# Altium footprint library 各类插件.PcbLib: 43 footprints (part 3 of 3)
Each footprint in its own frame and in the unit in brackets; x right, y up, seen from the top. Pads: shape width x height; smd on the part's side, far side on the other; paste and mask are expansions set on the pad; w line width, h text height; cw(c..) or ccw(c..) is an arc to the next point about the centre after c.
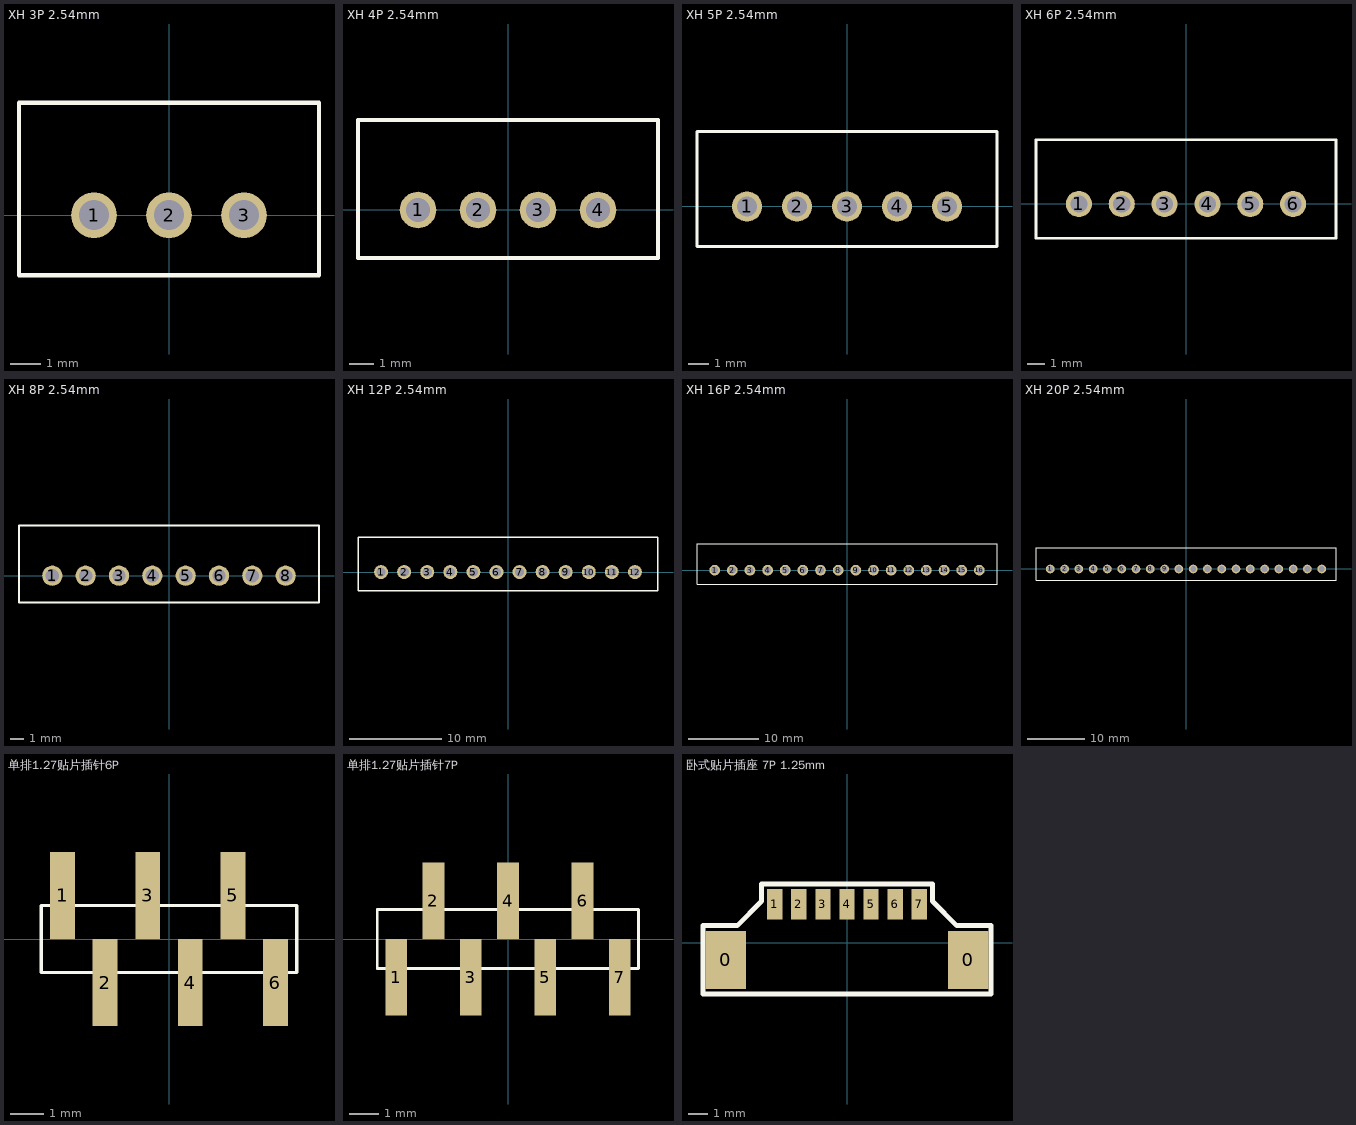
[diagram p2: the footprints below, top view; thin cyan lines are the x and y axes]

## XH 3P 2.54mm [mil]
pads (3):
  round 60 hole 39.37: 1(-98.43,0)
  round 60 hole 39.37 paste+0: 2(0,0) 3(98.43,0)
Top Overlay:
  lines w5.91: -196.85,-78.74 196.85,-78.74 ; -196.85,-76.77 -196.85,147.64 196.85,147.64 196.85,-76.77

## XH 4P 2.54mm [mm]
pads (4):
  round 1.524 hole 1: 1(-3.75,0) 2(-1.25,0)
  round 1.524 hole 1 paste+0: 3(1.25,0) 4(3.75,0)
Top Overlay:
  lines w0.15: -6.25,-2 6.25,-2 ; -6.25,-1.95 -6.25,3.75 6.25,3.75 6.25,-1.95

## XH 5P 2.54mm [mil]
pads (5):
  round 60 hole 39.37: 1(-196.85,0)
  round 60 hole 39.37 paste+0: 2(-98.43,0) 3(0,0) 4(98.43,0) 5(196.85,0)
Top Overlay:
  lines w5.91: -295.28,-78.74 -295.28,147.64 295.28,147.64 295.28,-78.74 -295.28,-78.74

## XH 6P 2.54mm [mm]
pads (6):
  round 1.524 hole 1: 1(-6.25,0) 4(1.25,0) 5(3.75,0)
  round 1.524 hole 1 paste+0: 2(-3.75,0) 3(-1.25,0) 6(6.25,0)
Top Overlay:
  lines w0.15: -8.75,-2 -8.75,3.75 8.75,3.75 8.75,-2 -8.75,-2

## XH 8P 2.54mm [mm]
pads (8):
  round 1.524 hole 1: 1(-8.75,0) 2(-6.25,0) 5(1.25,0) 6(3.75,0)
  round 1.524 hole 1 paste+0: 3(-3.75,0) 4(-1.25,0) 7(6.25,0) 8(8.75,0)
Top Overlay:
  lines w0.15: -11.25,-2 -11.25,3.75 11.25,3.75 11.25,-2 -11.25,-2

## XH 12P 2.54mm [mm]
pads (12):
  round 1.524 hole 1: 1(-13.75,0) 2(-11.25,0) 5(-3.75,0) 6(-1.25,0) 9(6.25,0) 10(8.75,0)
  round 1.524 hole 1 paste+0: 3(-8.75,0) 4(-6.25,0) 7(1.25,0) 8(3.75,0) 11(11.25,0) 12(13.75,0)
Top Overlay:
  lines w0.15: -16.25,-2 -16.25,3.75 16.25,3.75 16.25,-2 -16.25,-2

## XH 16P 2.54mm [mm]
pads (16):
  round 1.524 hole 1: 1(-18.75,0) 2(-16.25,0) 5(-8.75,0) 6(-6.25,0) 11(6.25,0) 12(8.75,0) 15(16.25,0) 16(18.75,0)
  round 1.524 hole 1 paste+0: 3(-13.75,0) 4(-11.25,0) 7(-3.75,0) 8(-1.25,0) 9(1.25,0) 10(3.75,0) 13(11.25,0) 14(13.75,0)
Top Overlay:
  lines w0.15: -21.25,-2 21.25,-2 21.25,3.75 -21.25,3.75 -21.25,-2

## XH 20P 2.54mm [mm]
pads (20):
  round 1.524 hole 1: 1(-23.75,0) 2(-21.25,0) 3(-18.75,0) 4(-16.25,0) 7(-8.75,0) 8(-6.25,0) 11(1.25,0) 12(3.75,0) 17(16.25,0) 18(18.75,0) 19(21.25,0) 20(23.75,0)
  round 1.524 hole 1 paste+0: 5(-13.75,0) 6(-11.25,0) 9(-3.75,0) 10(-1.25,0) 13(6.25,0) 14(8.75,0) 15(11.25,0) 16(13.75,0)
Top Overlay:
  lines w0.15: -26.25,-2 26.25,-2 26.25,3.75 -26.25,3.75 -26.25,-2

## 单排1.27贴片插针6P [mm]
pads (6):
  rect 0.74x2.6 smd: 1(-3.175,1.3) 2(-1.905,-1.3) 3(-0.635,1.3) 4(0.635,-1.3) 5(1.905,1.3) 6(3.175,-1.3)
Top Overlay:
  lines w0.1: -3.81,-1 -3.81,1 3.81,1 3.81,-1 -3.81,-1

## 单排1.27贴片插针7P [mm]
pads (7):
  rect 0.74x2.6 smd: 1(-3.81,-1.3) 2(-2.54,1.3) 3(-1.27,-1.3) 4(0,1.3) 5(1.27,-1.3) 6(2.54,1.3) 7(3.81,-1.3)
Top Overlay:
  lines w0.1: -4.455,-1 -4.455,1 ; -4.445,-1 4.445,-1 4.445,1 -4.445,1

## 卧式贴片插座 7P 1.25mm [mm]
pads (9):
  rect 2.1x3 smd: 0(-6.3,-0.9) 0(6.3,-0.9)
  rect 0.8x1.6 smd: 1(-3.75,2) 2(-2.5,2) 3(-1.25,2) 4(0,2) 5(1.25,2) 6(2.5,2) 7(3.75,2)
Top Overlay:
  lines w0.254: -7.493,-2.667 -7.493,0.889 -5.715,0.889 -4.445,2.159 -4.445,3.048 4.445,3.048 4.445,2.159 5.715,0.889 7.493,0.889 7.493,-2.667 -7.493,-2.667